# Altium footprint library 主控制.PcbLib: 139 footprints (part 5 of 9)
Each footprint in its own frame and in the unit in brackets; x right, y up, seen from the top. Pads: shape width x height; smd on the part's side, far side on the other; paste and mask are expansions set on the pad; w line width, h text height; cw(c..) or ccw(c..) is an arc to the next point about the centre after c.
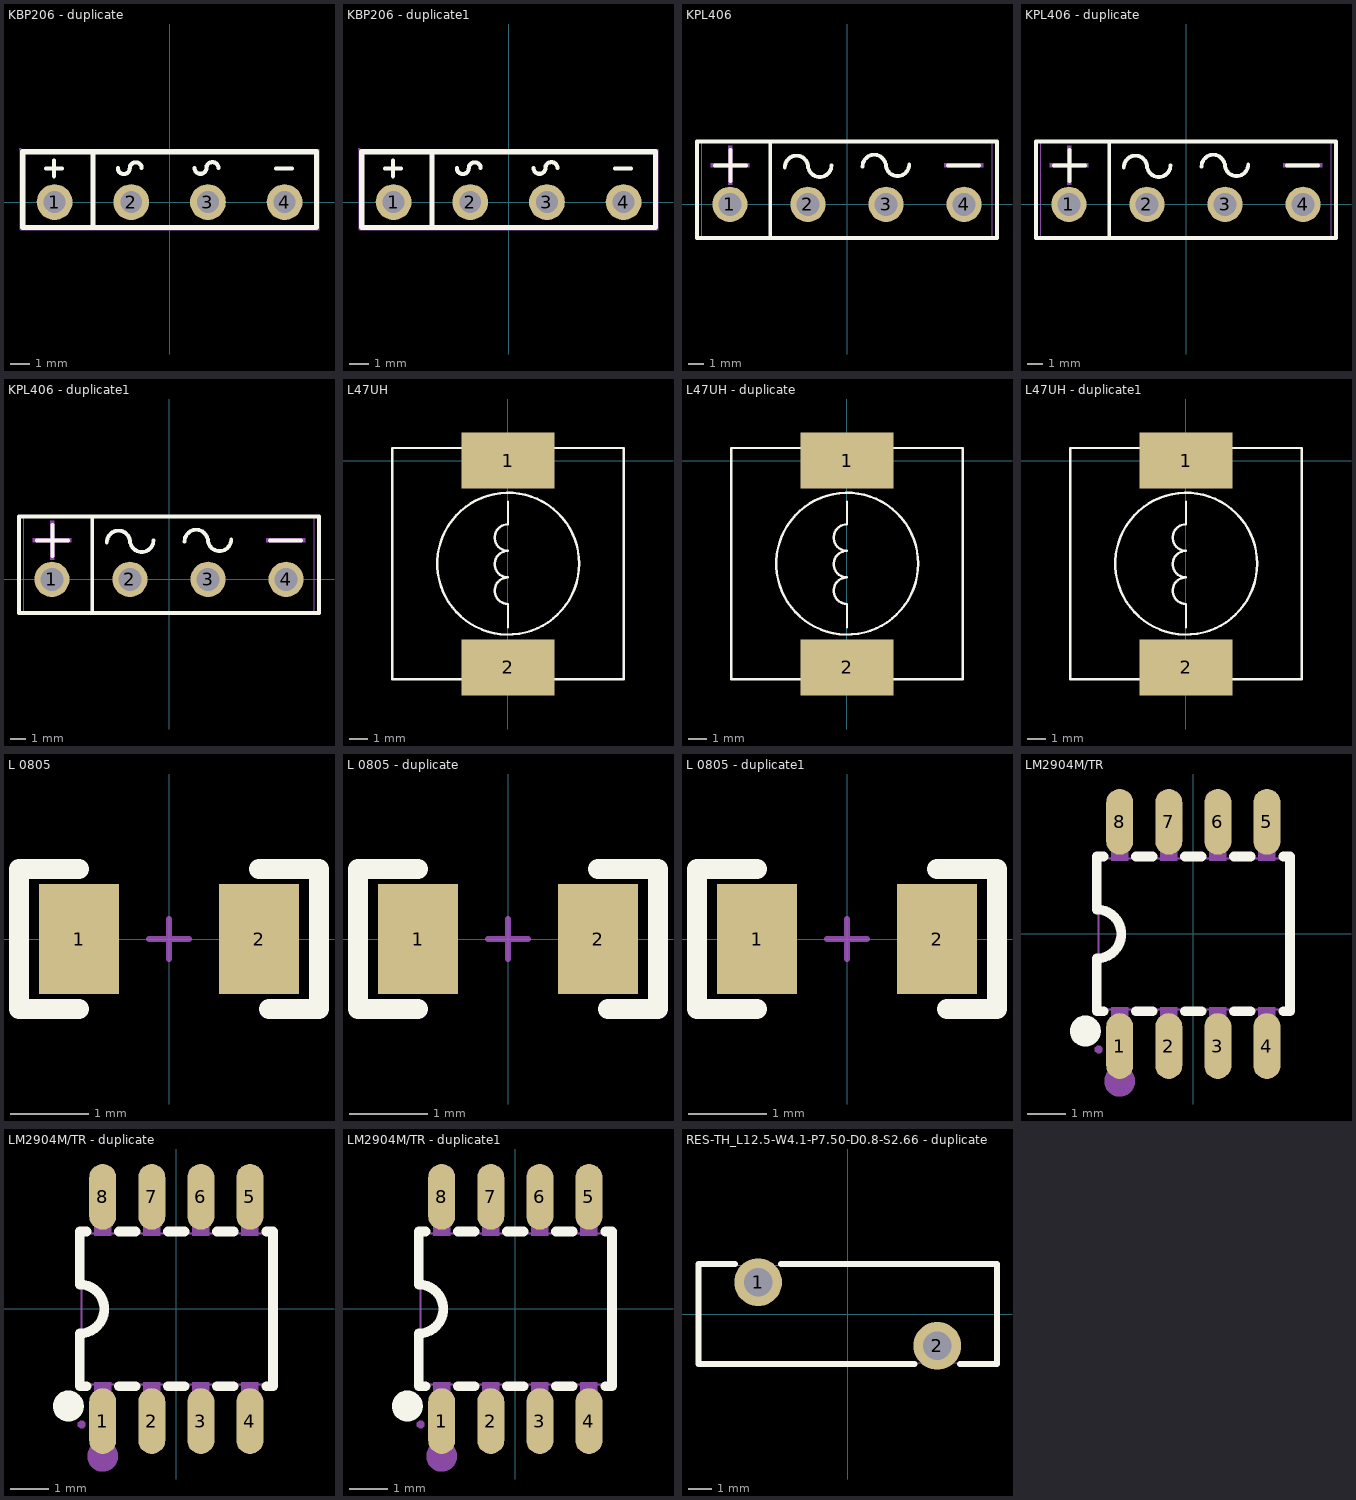
[diagram p4: the footprints below, top view; thin cyan lines are the x and y axes]

## KBP206 - duplicate [mm]
pads (4):
  round 1.8 hole 1.1 paste+0 mask+0.051: 1(-5.775,0) 2(-1.925,0) 3(1.925,0) 4(5.775,0)
Top Overlay:
  lines w0.203: -6.2,1.7 -5.4,1.7 ; -5.8,1.3 -5.8,2.1 ; -2.601,1.709 ccw(c-2.3,1.709) -1.999,1.709 cw(c-1.699,1.696) -1.399,1.709 ; 1.25,1.709 ccw(c1.55,1.722) 1.849,1.709 cw(c2.15,1.709) 2.451,1.709 ; 5.35,1.7 6.15,1.7
  lines w0.254: -3.85,-1.27 -3.85,2.53 ; -7.375,-1.27 7.375,-1.27 7.375,2.53 -7.375,2.53 -7.375,-1.27
Mechanical 15:
  region: -7.442,2.657 -7.442,2.682 -7.477,2.717 -7.527,2.717 -7.562,2.682 -7.562,2.657 -7.562,2.632 -7.527,2.597 -7.477,2.597 -7.442,2.632
  region: 2.375,0 2.375,0.089 2.307,0.255 2.18,0.381 2.015,0.45 1.836,0.45 1.67,0.381 1.544,0.255 1.475,0.089 1.475,0 1.475,-0.09 1.544,-0.255 1.67,-0.382 1.836,-0.45 2.015,-0.45 2.18,-0.382 2.307,-0.255 2.375,-0.09
  region: 6.225,0 6.225,0.089 6.156,0.255 6.03,0.381 5.865,0.45 5.685,0.45 5.52,0.381 5.394,0.255 5.325,0.089 5.325,0 5.325,-0.09 5.394,-0.255 5.52,-0.382 5.685,-0.45 5.865,-0.45 6.03,-0.382 6.156,-0.255 6.225,-0.09
  region: -1.475,0 -1.475,0.089 -1.544,0.255 -1.67,0.381 -1.836,0.45 -2.015,0.45 -2.18,0.381 -2.307,0.255 -2.375,0.089 -2.375,0 -2.375,-0.09 -2.307,-0.255 -2.18,-0.382 -2.015,-0.45 -1.836,-0.45 -1.67,-0.382 -1.544,-0.255 -1.475,-0.09
  region: -5.325,0 -5.325,0.089 -5.393,0.255 -5.52,0.381 -5.685,0.45 -5.864,0.45 -6.03,0.381 -6.156,0.255 -6.225,0.089 -6.225,0 -6.225,-0.09 -6.156,-0.255 -6.03,-0.382 -5.864,-0.45 -5.685,-0.45 -5.52,-0.382 -5.393,-0.255 -5.325,-0.09
  lines w0.051: -7.502,-1.397 -7.502,2.657 7.502,2.657 7.502,-1.397 -7.502,-1.397

## KBP206 - duplicate1 [mm]
pads (4):
  round 1.8 hole 1.1 paste+0 mask+0.051: 1(-5.775,0) 2(-1.925,0) 3(1.925,0) 4(5.775,0)
Top Overlay:
  lines w0.203: -6.2,1.7 -5.4,1.7 ; -5.8,1.3 -5.8,2.1 ; -2.601,1.709 ccw(c-2.3,1.709) -1.999,1.709 cw(c-1.699,1.696) -1.399,1.709 ; 1.25,1.709 ccw(c1.55,1.722) 1.849,1.709 cw(c2.15,1.709) 2.451,1.709 ; 5.35,1.7 6.15,1.7
  lines w0.254: -3.85,-1.27 -3.85,2.53 ; -7.375,-1.27 7.375,-1.27 7.375,2.53 -7.375,2.53 -7.375,-1.27
Mechanical 15:
  region: -7.442,2.657 -7.442,2.682 -7.477,2.717 -7.527,2.717 -7.562,2.682 -7.562,2.657 -7.562,2.632 -7.527,2.597 -7.477,2.597 -7.442,2.632
  region: 2.375,0 2.375,0.089 2.307,0.255 2.18,0.381 2.015,0.45 1.836,0.45 1.67,0.381 1.544,0.255 1.475,0.089 1.475,0 1.475,-0.09 1.544,-0.255 1.67,-0.382 1.836,-0.45 2.015,-0.45 2.18,-0.382 2.307,-0.255 2.375,-0.09
  region: 6.225,0 6.225,0.089 6.156,0.255 6.03,0.381 5.865,0.45 5.685,0.45 5.52,0.381 5.394,0.255 5.325,0.089 5.325,0 5.325,-0.09 5.394,-0.255 5.52,-0.382 5.685,-0.45 5.865,-0.45 6.03,-0.382 6.156,-0.255 6.225,-0.09
  region: -1.475,0 -1.475,0.089 -1.544,0.255 -1.67,0.381 -1.836,0.45 -2.015,0.45 -2.18,0.381 -2.307,0.255 -2.375,0.089 -2.375,0 -2.375,-0.09 -2.307,-0.255 -2.18,-0.382 -2.015,-0.45 -1.836,-0.45 -1.67,-0.382 -1.544,-0.255 -1.475,-0.09
  region: -5.325,0 -5.325,0.089 -5.393,0.255 -5.52,0.381 -5.685,0.45 -5.864,0.45 -6.03,0.381 -6.156,0.255 -6.225,0.089 -6.225,0 -6.225,-0.09 -6.156,-0.255 -6.03,-0.382 -5.864,-0.45 -5.685,-0.45 -5.52,-0.382 -5.393,-0.255 -5.325,-0.09
  lines w0.051: -7.502,-1.397 -7.502,2.657 7.502,2.657 7.502,-1.397 -7.502,-1.397

## KPL406 [mm]
pads (4):
  round 2.3 hole 1.5 paste+0 mask+0.051: 1(-7.65,0) 2(-2.55,0) 3(2.55,0) 4(7.65,0)
Top Overlay:
  lines w0.254: -8.636,2.54 -6.604,2.54 ; -7.62,1.524 -7.62,3.556 ; -5.016,-2.2 -5.016,4.1 ; -4.064,2.413 cw(c-3.302,2.413) -2.54,2.413 ; -2.54,2.54 ccw(c-1.778,2.54) -1.016,2.54 ; 1.016,2.476 cw(c1.778,2.476) 2.54,2.476 ; 2.54,2.603 ccw(c3.302,2.603) 4.064,2.603 ; 6.604,2.54 8.636,2.54 ; -9.8,-2.2 9.8,-2.2 9.8,4.1 -9.8,4.1 -9.8,-2.2
Mechanical 6:
  region: 6.35,2.667 8.89,2.667 8.89,2.413 6.35,2.413
  region: -8.916,2.682 -6.376,2.682 -6.376,2.428 -8.916,2.428
  region: -7.764,1.291 -7.764,3.831 -7.51,3.831 -7.51,1.291
Mechanical 15:
  region: -9.44,-2.1 -9.44,-2.075 -9.475,-2.04 -9.525,-2.04 -9.56,-2.075 -9.56,-2.1 -9.56,-2.125 -9.525,-2.16 -9.475,-2.16 -9.44,-2.125
  region: 8.27,0 8.27,0.123 8.176,0.351 8.001,0.526 7.773,0.62 7.527,0.62 7.299,0.526 7.124,0.351 7.03,0.123 7.03,0 7.03,-0.123 7.124,-0.351 7.299,-0.526 7.527,-0.62 7.773,-0.62 8.001,-0.526 8.176,-0.351 8.27,-0.123
  region: 3.17,0 3.17,0.123 3.076,0.351 2.901,0.526 2.673,0.62 2.427,0.62 2.199,0.526 2.024,0.351 1.93,0.123 1.93,0 1.93,-0.123 2.024,-0.351 2.199,-0.526 2.427,-0.62 2.673,-0.62 2.901,-0.526 3.076,-0.351 3.17,-0.123
  region: -1.93,0 -1.93,0.123 -2.024,0.351 -2.199,0.526 -2.427,0.62 -2.673,0.62 -2.901,0.526 -3.076,0.351 -3.17,0.123 -3.17,0 -3.17,-0.123 -3.076,-0.351 -2.901,-0.526 -2.673,-0.62 -2.427,-0.62 -2.199,-0.526 -2.024,-0.351 -1.93,-0.123
  region: -7.03,0 -7.03,0.123 -7.124,0.351 -7.299,0.526 -7.527,0.62 -7.773,0.62 -8.001,0.526 -8.176,0.351 -8.27,0.123 -8.27,0 -8.27,-0.123 -8.176,-0.351 -8.001,-0.526 -7.773,-0.62 -7.527,-0.62 -7.299,-0.526 -7.124,-0.351 -7.03,-0.123
  lines w0.051: -9.5,-2.1 9.5,-2.1 9.5,4.2 -9.5,4.2 -9.5,-2.1

## KPL406 - duplicate [mm]
pads (4):
  round 2.3 hole 1.5 paste+0 mask+0.051: 1(-7.65,0) 2(-2.55,0) 3(2.55,0) 4(7.65,0)
Top Overlay:
  lines w0.254: -8.636,2.54 -6.604,2.54 ; -7.62,1.524 -7.62,3.556 ; -5.016,-2.2 -5.016,4.1 ; -4.064,2.413 cw(c-3.302,2.413) -2.54,2.413 ; -2.54,2.54 ccw(c-1.778,2.54) -1.016,2.54 ; 1.016,2.476 cw(c1.778,2.476) 2.54,2.476 ; 2.54,2.603 ccw(c3.302,2.603) 4.064,2.603 ; 6.604,2.54 8.636,2.54 ; -9.8,-2.2 9.8,-2.2 9.8,4.1 -9.8,4.1 -9.8,-2.2
Mechanical 6:
  region: 6.35,2.667 8.89,2.667 8.89,2.413 6.35,2.413
  region: -8.916,2.682 -6.376,2.682 -6.376,2.428 -8.916,2.428
  region: -7.764,1.291 -7.764,3.831 -7.51,3.831 -7.51,1.291
Mechanical 15:
  region: -9.44,-2.1 -9.44,-2.075 -9.475,-2.04 -9.525,-2.04 -9.56,-2.075 -9.56,-2.1 -9.56,-2.125 -9.525,-2.16 -9.475,-2.16 -9.44,-2.125
  region: 8.27,0 8.27,0.123 8.176,0.351 8.001,0.526 7.773,0.62 7.527,0.62 7.299,0.526 7.124,0.351 7.03,0.123 7.03,0 7.03,-0.123 7.124,-0.351 7.299,-0.526 7.527,-0.62 7.773,-0.62 8.001,-0.526 8.176,-0.351 8.27,-0.123
  region: 3.17,0 3.17,0.123 3.076,0.351 2.901,0.526 2.673,0.62 2.427,0.62 2.199,0.526 2.024,0.351 1.93,0.123 1.93,0 1.93,-0.123 2.024,-0.351 2.199,-0.526 2.427,-0.62 2.673,-0.62 2.901,-0.526 3.076,-0.351 3.17,-0.123
  region: -1.93,0 -1.93,0.123 -2.024,0.351 -2.199,0.526 -2.427,0.62 -2.673,0.62 -2.901,0.526 -3.076,0.351 -3.17,0.123 -3.17,0 -3.17,-0.123 -3.076,-0.351 -2.901,-0.526 -2.673,-0.62 -2.427,-0.62 -2.199,-0.526 -2.024,-0.351 -1.93,-0.123
  region: -7.03,0 -7.03,0.123 -7.124,0.351 -7.299,0.526 -7.527,0.62 -7.773,0.62 -8.001,0.526 -8.176,0.351 -8.27,0.123 -8.27,0 -8.27,-0.123 -8.176,-0.351 -8.001,-0.526 -7.773,-0.62 -7.527,-0.62 -7.299,-0.526 -7.124,-0.351 -7.03,-0.123
  lines w0.051: -9.5,-2.1 9.5,-2.1 9.5,4.2 -9.5,4.2 -9.5,-2.1

## KPL406 - duplicate1 [mm]
pads (4):
  round 2.3 hole 1.5 paste+0 mask+0.051: 1(-7.65,0) 2(-2.55,0) 3(2.55,0) 4(7.65,0)
Top Overlay:
  lines w0.254: -8.636,2.54 -6.604,2.54 ; -7.62,1.524 -7.62,3.556 ; -5.016,-2.2 -5.016,4.1 ; -4.064,2.413 cw(c-3.302,2.413) -2.54,2.413 ; -2.54,2.54 ccw(c-1.778,2.54) -1.016,2.54 ; 1.016,2.476 cw(c1.778,2.476) 2.54,2.476 ; 2.54,2.603 ccw(c3.302,2.603) 4.064,2.603 ; 6.604,2.54 8.636,2.54 ; -9.8,-2.2 9.8,-2.2 9.8,4.1 -9.8,4.1 -9.8,-2.2
Mechanical 6:
  region: 6.35,2.667 8.89,2.667 8.89,2.413 6.35,2.413
  region: -8.916,2.682 -6.376,2.682 -6.376,2.428 -8.916,2.428
  region: -7.764,1.291 -7.764,3.831 -7.51,3.831 -7.51,1.291
Mechanical 15:
  region: -9.44,-2.1 -9.44,-2.075 -9.475,-2.04 -9.525,-2.04 -9.56,-2.075 -9.56,-2.1 -9.56,-2.125 -9.525,-2.16 -9.475,-2.16 -9.44,-2.125
  region: 8.27,0 8.27,0.123 8.176,0.351 8.001,0.526 7.773,0.62 7.527,0.62 7.299,0.526 7.124,0.351 7.03,0.123 7.03,0 7.03,-0.123 7.124,-0.351 7.299,-0.526 7.527,-0.62 7.773,-0.62 8.001,-0.526 8.176,-0.351 8.27,-0.123
  region: 3.17,0 3.17,0.123 3.076,0.351 2.901,0.526 2.673,0.62 2.427,0.62 2.199,0.526 2.024,0.351 1.93,0.123 1.93,0 1.93,-0.123 2.024,-0.351 2.199,-0.526 2.427,-0.62 2.673,-0.62 2.901,-0.526 3.076,-0.351 3.17,-0.123
  region: -1.93,0 -1.93,0.123 -2.024,0.351 -2.199,0.526 -2.427,0.62 -2.673,0.62 -2.901,0.526 -3.076,0.351 -3.17,0.123 -3.17,0 -3.17,-0.123 -3.076,-0.351 -2.901,-0.526 -2.673,-0.62 -2.427,-0.62 -2.199,-0.526 -2.024,-0.351 -1.93,-0.123
  region: -7.03,0 -7.03,0.123 -7.124,0.351 -7.299,0.526 -7.527,0.62 -7.773,0.62 -8.001,0.526 -8.176,0.351 -8.27,0.123 -8.27,0 -8.27,-0.123 -8.176,-0.351 -8.001,-0.526 -7.773,-0.62 -7.527,-0.62 -7.299,-0.526 -7.124,-0.351 -7.03,-0.123
  lines w0.051: -9.5,-2.1 9.5,-2.1 9.5,4.2 -9.5,4.2 -9.5,-2.1

## L47UH [mm]
pads (2):
  rect 5x3 smd: 1(0,0) 2(0,-11.074)
Top Overlay:
  circle w0.127: c0.01,-5.519 r3.8
  lines w0.127: 0,-8.923 0,-7.678 cw(c0,-6.967) 0,-6.256 cw(c0,-5.544) 0,-4.833 cw(c0,-4.122) 0,-3.411 0,-2.192 ; -6.2,-11.719 6.2,-11.719 6.2,0.681 -6.2,0.681 -6.2,-11.719

## L47UH - duplicate [mm]
pads (2):
  rect 5x3 smd: 1(0,0) 2(0,-11.074)
Top Overlay:
  circle w0.127: c0.01,-5.519 r3.8
  lines w0.127: 0,-8.923 0,-7.678 cw(c0,-6.967) 0,-6.256 cw(c0,-5.544) 0,-4.833 cw(c0,-4.122) 0,-3.411 0,-2.192 ; -6.2,-11.719 6.2,-11.719 6.2,0.681 -6.2,0.681 -6.2,-11.719

## L47UH - duplicate1 [mm]
pads (2):
  rect 5x3 smd: 1(0,0) 2(0,-11.074)
Top Overlay:
  circle w0.127: c0.01,-5.519 r3.8
  lines w0.127: 0,-8.923 0,-7.678 cw(c0,-6.967) 0,-6.256 cw(c0,-5.544) 0,-4.833 cw(c0,-4.122) 0,-3.411 0,-2.192 ; -6.2,-11.719 6.2,-11.719 6.2,0.681 -6.2,0.681 -6.2,-11.719

## L 0805 [mil] "小功率贴片电感        淘宝ID:黄晶宝石"
pads (2):
  rect 40x55 smd: 1(-45,0) 2(45,0)
Top Overlay:
  lines w10: -45,-35 -75,-35 -75,35 -45,35 ; 45,35 75,35 75,-35 50,-35
Mechanical 15:
  lines w3: -10,0 10,0 ; 0,-10 0,10
3D body "0805.STEP": height 35.43, standoff -0.11, extent -39.37,-23.62 39.37,23.62

## L 0805 - duplicate [mil]
pads (2):
  rect 40x55 smd: 1(-45,0) 2(45,0)
Top Overlay:
  lines w10: -45,-35 -75,-35 -75,35 -45,35 ; 45,35 75,35 75,-35 50,-35
Mechanical 15:
  lines w3: -10,0 10,0 ; 0,-10 0,10
3D body "0805.STEP": height 35.43, standoff -0.11, extent -39.37,-23.62 39.37,23.62

## L 0805 - duplicate1 [mil]
pads (2):
  rect 40x55 smd: 1(-45,0) 2(45,0)
Top Overlay:
  lines w10: -45,-35 -75,-35 -75,35 -45,35 ; 45,35 75,35 75,-35 50,-35
Mechanical 15:
  lines w3: -10,0 10,0 ; 0,-10 0,10
3D body "0805.STEP": height 35.43, standoff -0.11, extent -39.37,-23.62 39.37,23.62

## LM2904M/TR [mm]
pads (8):
  oval 0.7x1.7 smd paste+0 mask+0.051: 1(-1.905,-2.9) 2(-0.635,-2.9) 3(0.635,-2.9) 4(1.905,-2.9) 5(1.905,2.9) 6(0.635,2.9) 7(-0.635,2.9) 8(-1.905,2.9)
Top Overlay:
  lines w0.254: -2.326,-2 -2.5,-2 -2.5,-0.635 ccw(c-2.5,0) -2.499,0.635 -2.5,2 -2.326,2 ; -1.484,-2 -1.056,-2 ; -1.484,2 -1.056,2 ; -0.214,-2 0.214,-2 ; -0.214,2 0.214,2 ; 1.056,-2 1.484,-2 ; 1.056,2 1.484,2 ; 2.326,-2 2.5,-2 2.5,2 2.326,2
  lines w0.4: -2.794,-2.311 ccw(c-2.793,-2.511) -2.791,-2.311
Mechanical 6:
  circle w0.4: c-1.905,-3.81 r0.2
Mechanical 15:
  region: 1.685,1.9 1.685,2.315 2.125,2.315 2.125,1.9
  region: 1.685,2.265 1.685,2.99 2.125,2.99 2.125,2.265
  region: 0.415,1.9 0.415,2.315 0.855,2.315 0.855,1.9
  region: 0.415,2.265 0.415,2.99 0.855,2.99 0.855,2.265
  region: -0.855,1.9 -0.855,2.315 -0.415,2.315 -0.415,1.9
  region: -0.855,2.265 -0.855,2.99 -0.415,2.99 -0.415,2.265
  region: -2.125,1.9 -2.125,2.315 -1.685,2.315 -1.685,1.9
  region: -2.125,2.265 -2.125,2.99 -1.685,2.99 -1.685,2.265
  region: 1.685,-2.315 1.685,-1.9 2.125,-1.9 2.125,-2.315
  region: 1.685,-2.99 1.685,-2.265 2.125,-2.265 2.125,-2.99
  region: 0.415,-2.315 0.415,-1.9 0.855,-1.9 0.855,-2.315
  region: 0.415,-2.99 0.415,-2.265 0.855,-2.265 0.855,-2.99
  region: -0.855,-2.315 -0.855,-1.9 -0.415,-1.9 -0.415,-2.315
  region: -0.855,-2.99 -0.855,-2.265 -0.415,-2.265 -0.415,-2.99
  region: -2.125,-2.315 -2.125,-1.9 -1.685,-1.9 -1.685,-2.315
  region: -2.125,-2.99 -2.125,-2.265 -1.685,-2.265 -1.685,-2.99
  region: -2.35,-2.99 -2.35,-2.949 -2.409,-2.89 -2.492,-2.89 -2.55,-2.949 -2.55,-2.99 -2.55,-3.032 -2.492,-3.09 -2.409,-3.09 -2.35,-3.032
  lines w0.051: -2.45,-1.95 -2.45,1.95 2.45,1.95 2.45,-1.95 -2.45,-1.95

## LM2904M/TR - duplicate [mm]
pads (8):
  oval 0.7x1.7 smd paste+0 mask+0.051: 1(-1.905,-2.9) 2(-0.635,-2.9) 3(0.635,-2.9) 4(1.905,-2.9) 5(1.905,2.9) 6(0.635,2.9) 7(-0.635,2.9) 8(-1.905,2.9)
Top Overlay:
  lines w0.254: -2.326,-2 -2.5,-2 -2.5,-0.635 ccw(c-2.5,0) -2.499,0.635 -2.5,2 -2.326,2 ; -1.484,-2 -1.056,-2 ; -1.484,2 -1.056,2 ; -0.214,-2 0.214,-2 ; -0.214,2 0.214,2 ; 1.056,-2 1.484,-2 ; 1.056,2 1.484,2 ; 2.326,-2 2.5,-2 2.5,2 2.326,2
  lines w0.4: -2.794,-2.311 ccw(c-2.793,-2.511) -2.791,-2.311
Mechanical 6:
  circle w0.4: c-1.905,-3.81 r0.2
Mechanical 15:
  region: 1.685,1.9 1.685,2.315 2.125,2.315 2.125,1.9
  region: 1.685,2.265 1.685,2.99 2.125,2.99 2.125,2.265
  region: 0.415,1.9 0.415,2.315 0.855,2.315 0.855,1.9
  region: 0.415,2.265 0.415,2.99 0.855,2.99 0.855,2.265
  region: -0.855,1.9 -0.855,2.315 -0.415,2.315 -0.415,1.9
  region: -0.855,2.265 -0.855,2.99 -0.415,2.99 -0.415,2.265
  region: -2.125,1.9 -2.125,2.315 -1.685,2.315 -1.685,1.9
  region: -2.125,2.265 -2.125,2.99 -1.685,2.99 -1.685,2.265
  region: 1.685,-2.315 1.685,-1.9 2.125,-1.9 2.125,-2.315
  region: 1.685,-2.99 1.685,-2.265 2.125,-2.265 2.125,-2.99
  region: 0.415,-2.315 0.415,-1.9 0.855,-1.9 0.855,-2.315
  region: 0.415,-2.99 0.415,-2.265 0.855,-2.265 0.855,-2.99
  region: -0.855,-2.315 -0.855,-1.9 -0.415,-1.9 -0.415,-2.315
  region: -0.855,-2.99 -0.855,-2.265 -0.415,-2.265 -0.415,-2.99
  region: -2.125,-2.315 -2.125,-1.9 -1.685,-1.9 -1.685,-2.315
  region: -2.125,-2.99 -2.125,-2.265 -1.685,-2.265 -1.685,-2.99
  region: -2.35,-2.99 -2.35,-2.949 -2.409,-2.89 -2.492,-2.89 -2.55,-2.949 -2.55,-2.99 -2.55,-3.032 -2.492,-3.09 -2.409,-3.09 -2.35,-3.032
  lines w0.051: -2.45,-1.95 -2.45,1.95 2.45,1.95 2.45,-1.95 -2.45,-1.95

## LM2904M/TR - duplicate1 [mm]
pads (8):
  oval 0.7x1.7 smd paste+0 mask+0.051: 1(-1.905,-2.9) 2(-0.635,-2.9) 3(0.635,-2.9) 4(1.905,-2.9) 5(1.905,2.9) 6(0.635,2.9) 7(-0.635,2.9) 8(-1.905,2.9)
Top Overlay:
  lines w0.254: -2.326,-2 -2.5,-2 -2.5,-0.635 ccw(c-2.5,0) -2.499,0.635 -2.5,2 -2.326,2 ; -1.484,-2 -1.056,-2 ; -1.484,2 -1.056,2 ; -0.214,-2 0.214,-2 ; -0.214,2 0.214,2 ; 1.056,-2 1.484,-2 ; 1.056,2 1.484,2 ; 2.326,-2 2.5,-2 2.5,2 2.326,2
  lines w0.4: -2.794,-2.311 ccw(c-2.793,-2.511) -2.791,-2.311
Mechanical 6:
  circle w0.4: c-1.905,-3.81 r0.2
Mechanical 15:
  region: 1.685,1.9 1.685,2.315 2.125,2.315 2.125,1.9
  region: 1.685,2.265 1.685,2.99 2.125,2.99 2.125,2.265
  region: 0.415,1.9 0.415,2.315 0.855,2.315 0.855,1.9
  region: 0.415,2.265 0.415,2.99 0.855,2.99 0.855,2.265
  region: -0.855,1.9 -0.855,2.315 -0.415,2.315 -0.415,1.9
  region: -0.855,2.265 -0.855,2.99 -0.415,2.99 -0.415,2.265
  region: -2.125,1.9 -2.125,2.315 -1.685,2.315 -1.685,1.9
  region: -2.125,2.265 -2.125,2.99 -1.685,2.99 -1.685,2.265
  region: 1.685,-2.315 1.685,-1.9 2.125,-1.9 2.125,-2.315
  region: 1.685,-2.99 1.685,-2.265 2.125,-2.265 2.125,-2.99
  region: 0.415,-2.315 0.415,-1.9 0.855,-1.9 0.855,-2.315
  region: 0.415,-2.99 0.415,-2.265 0.855,-2.265 0.855,-2.99
  region: -0.855,-2.315 -0.855,-1.9 -0.415,-1.9 -0.415,-2.315
  region: -0.855,-2.99 -0.855,-2.265 -0.415,-2.265 -0.415,-2.99
  region: -2.125,-2.315 -2.125,-1.9 -1.685,-1.9 -1.685,-2.315
  region: -2.125,-2.99 -2.125,-2.265 -1.685,-2.265 -1.685,-2.99
  region: -2.35,-2.99 -2.35,-2.949 -2.409,-2.89 -2.492,-2.89 -2.55,-2.949 -2.55,-2.99 -2.55,-3.032 -2.492,-3.09 -2.409,-3.09 -2.35,-3.032
  lines w0.051: -2.45,-1.95 -2.45,1.95 2.45,1.95 2.45,-1.95 -2.45,-1.95

## RES-TH_L12.5-W4.1-P7.50-D0.8-S2.66 [mm]

## RES-TH_L12.5-W4.1-P7.50-D0.8-S2.66 - duplicate [mm]
pads (2):
  round 2 hole 1.2: 1(-3.75,1.33) 2(3.75,-1.33)
Top Overlay:
  lines w0.254: -5.266,2.1 -4.71,2.1 ; -4.981,2.1 -6.25,2.1 -6.25,-2.1 2.519,-2.1 ; -2.79,2.1 -2.286,2.1 6.25,2.1 6.25,-2.1 ; 2.1,-2.1 2.79,-2.1 ; 4.71,-2.1 4.981,-2.1 6.223,-2.1
Mechanical 15:
  region: 4.125,-1.33 4.124,-1.256 4.067,-1.119 3.961,-1.015 3.824,-0.958 3.676,-0.958 3.539,-1.015 3.433,-1.119 3.376,-1.256 3.375,-1.33 3.376,-1.404 3.433,-1.541 3.539,-1.645 3.676,-1.702 3.824,-1.702 3.961,-1.645 4.067,-1.541 4.124,-1.404
  region: -3.375,1.33 -3.376,1.404 -3.433,1.541 -3.539,1.645 -3.676,1.702 -3.824,1.702 -3.961,1.645 -4.067,1.541 -4.124,1.404 -4.125,1.33 -4.124,1.256 -4.067,1.119 -3.961,1.015 -3.824,0.958 -3.676,0.958 -3.539,1.015 -3.433,1.119 -3.376,1.256
  region: -6.19,2.05 -6.19,2.075 -6.225,2.11 -6.275,2.11 -6.31,2.075 -6.31,2.05 -6.31,2.025 -6.275,1.99 -6.225,1.99 -6.19,2.025
  lines w0.051: -6.25,-2.05 6.25,-2.05 6.25,2.05 -6.25,2.05 -6.25,-2.05